# EAGLE library part LT3652HV (library ICs)
LT3652HV - Power Tracking 2A Battery Charger
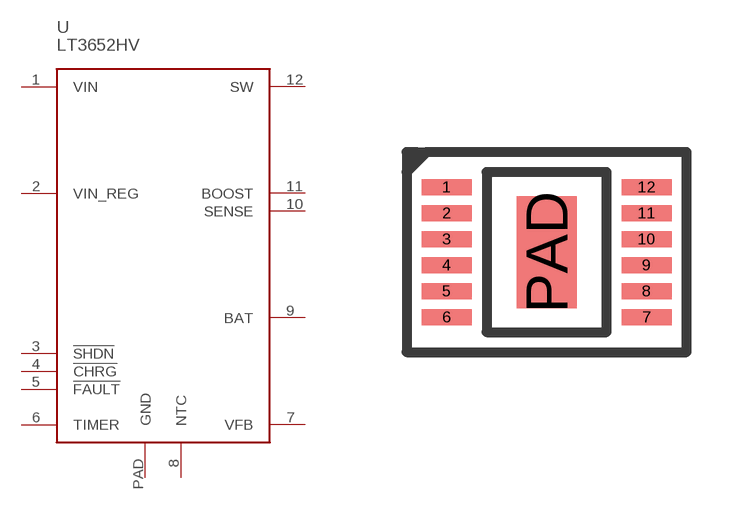
[diagram p102: symbol with the pads of MSOP12_PAD; footprint MSOP12_PAD]

Designator prefix U

## LT3652HV (DIGIKEY: LT3652HVEMSE#PBF-ND; PRICE_PER: 5.00; VALUE: LT3652)  [MSOP12_PAD]
1  VIN
2  VIN_REG
3  !SHDN
4  !CHRG
5  !FAULT
6  TIMER
7  VFB
8  NTC
9  BAT
10  SENSE
11  BOOST
12  SW
PAD  GND

## Footprint MSOP12_PAD (pad centres in mm)
smd 1.25 x 0.4: 1 -2.5,1.625; 2 -2.5,0.975; 3 -2.5,0.325; 4 -2.5,-0.325; 5 -2.5,-0.975; 6 -2.5,-1.625; 7 2.5,-1.625; 8 2.5,-0.975; 9 2.5,-0.325; 10 2.5,0.325; 11 2.5,0.975; 12 2.5,1.625
smd 1.5 x 2.8: PAD 0,0